# Altium footprint library LESD5D50CT1G.PcbLib: 1 footprints
Each footprint in its own frame and in the unit in brackets; x right, y up, seen from the top. Pads: shape width x height; smd on the part's side, far side on the other; paste and mask are expansions set on the pad; w line width, h text height; cw(c..) or ccw(c..) is an arc to the next point about the centre after c.
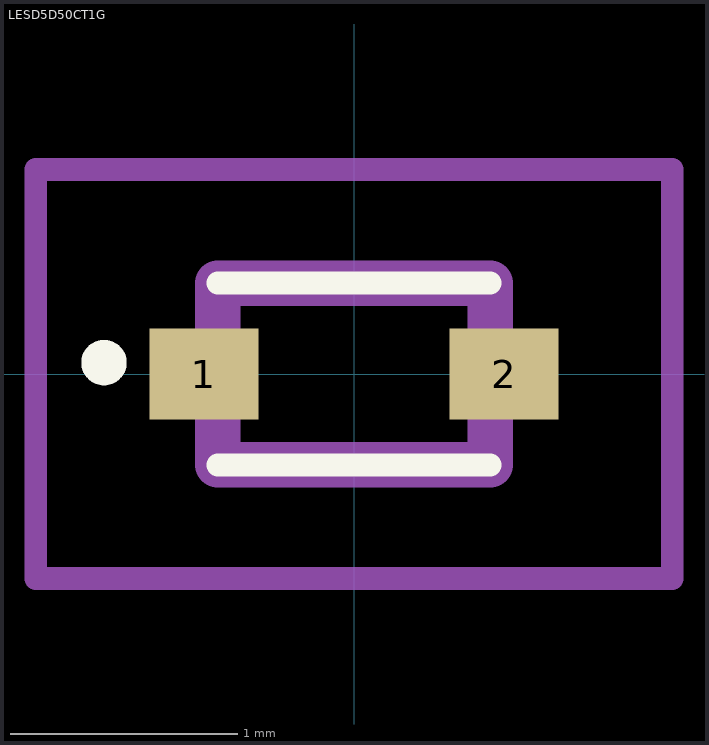
[diagram p0: the footprint, top view; thin cyan lines are the x and y axes]

## LESD5D50CT1G [mm]
pads (2):
  rect 0.48x0.4 smd: 1(-0.66,0) 2(0.66,0)
Top Overlay:
  lines w0.1: -0.6,-0.4 0.6,-0.4 ; -0.6,0.4 0.6,0.4 ; -1.1,0 cw(c-1.1,0.05) -1.1,0.1 ; -1.1,0 -1.1,0 ; -1.1,0 ccw(c-1.1,0.05) -1.1,0.1 ; -1.1,0.1 -1.1,0.1
Mechanical 15:
  lines w0.2: -0.6,-0.4 0.6,-0.4 0.6,0.4 -0.6,0.4 -0.6,-0.4
Mechanical 20:
  lines w0.1: -1.4,-0.9 1.4,-0.9 1.4,0.9 -1.4,0.9 -1.4,-0.9
3D body "LESD5D5.0CT1G.stp": height 5.8, standoff -4.65, extent -10,-3.376 10,3.376